# EAGLE library part STM32F407IXHX (library be_stm32)
edited: Mario Blunk / Blunk electronic
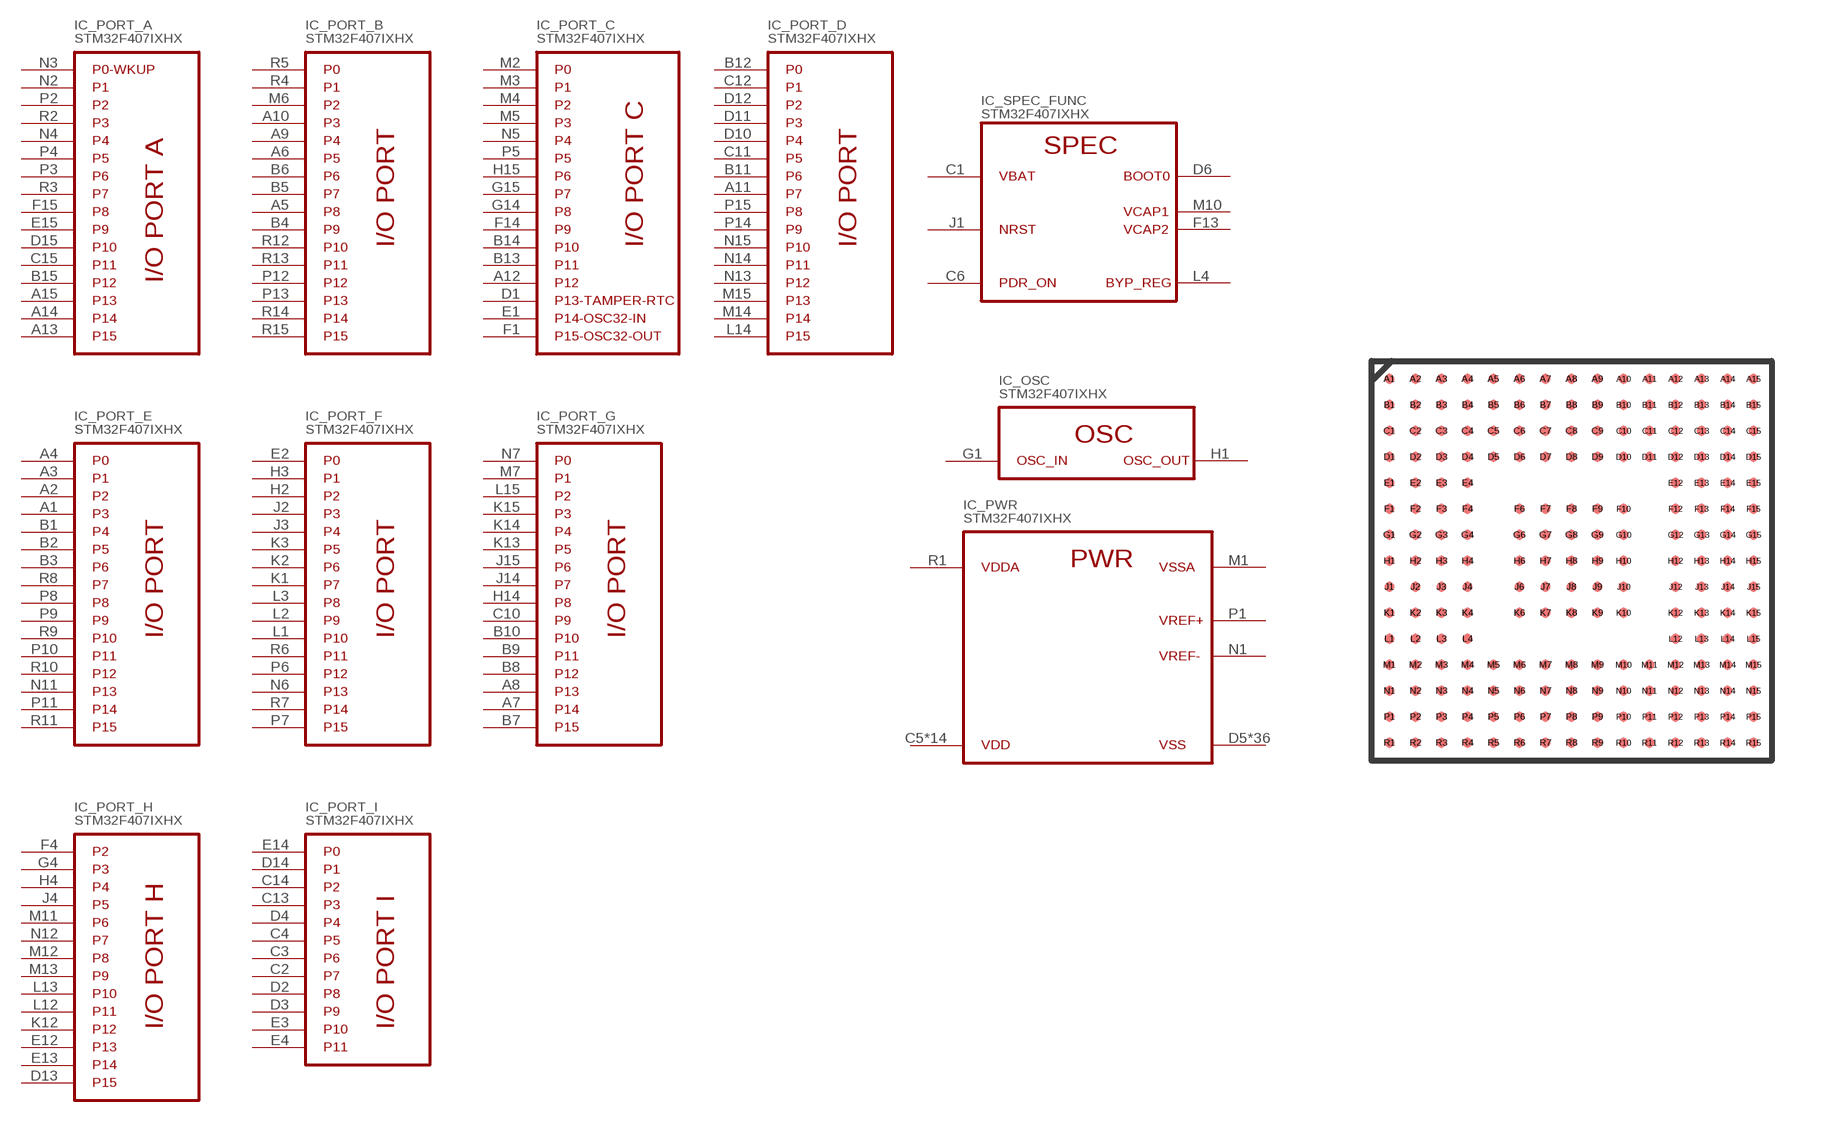
[diagram p1: symbol with the pads of S_UFBGA176+25; footprint S_UFBGA176+25]

Designator prefix IC; gates _PWR=PWR2 _OSC=OSC _PORT_B=IO_PORT _PORT_C=IO_PORT_C _PORT_D=IO_PORT _PORT_E=IO_PORT _PORT_F=IO_PORT _PORT_G=IO_PORT _SPEC_FUNC=SPECIAL_FUNC2 _PORT_A=IO_PORT_A _PORT_H=IO_PORT_H _PORT_I=IO_PORT_I

## STM32F407IXHX (BOM: YES; COMMISSIONED: 2013-11-18; PART_CODE_BEL: IC_PAC_S_UFBGA176+25_VAL_STM32F407IxHx)  [S_UFBGA176+25]
A1  _PORT_E:P3
A2  _PORT_E:P2
A3  _PORT_E:P1
A4  _PORT_E:P0
A5  _PORT_B:P8
A6  _PORT_B:P5
A7  _PORT_G:P14
A8  _PORT_G:P13
A9  _PORT_B:P4
A10  _PORT_B:P3
A11  _PORT_D:P7
A12  _PORT_C:P12
A13  _PORT_A:P15
A14  _PORT_A:P14
A15  _PORT_A:P13
B1  _PORT_E:P4
B2  _PORT_E:P5
B3  _PORT_E:P6
B4  _PORT_B:P9
B5  _PORT_B:P7
B6  _PORT_B:P6
B7  _PORT_G:P15
B8  _PORT_G:P12
B9  _PORT_G:P11
B10  _PORT_G:P10
B11  _PORT_D:P6
B12  _PORT_D:P0
B13  _PORT_C:P11
B14  _PORT_C:P10
B15  _PORT_A:P12
C1  _SPEC_FUNC:VBAT  pas
C2  _PORT_I:P7
C3  _PORT_I:P6
C4  _PORT_I:P5
C5  _PWR:VDD  pwr
C6  _SPEC_FUNC:PDR_ON  in
C7  _PWR:VDD  pwr
C8  _PWR:VDD  pwr
C9  _PWR:VDD  pwr
C10  _PORT_G:P9
C11  _PORT_D:P5
C12  _PORT_D:P1
C13  _PORT_I:P3
C14  _PORT_I:P2
C15  _PORT_A:P11
D1  _PORT_C:P13-TAMPER-RTC
D2  _PORT_I:P8
D3  _PORT_I:P9
D4  _PORT_I:P4
D5  _PWR:VSS  pwr
D6  _SPEC_FUNC:BOOT0  in
D7  _PWR:VSS  pwr
D8  _PWR:VSS  pwr
D9  _PWR:VSS  pwr
D10  _PORT_D:P4
D11  _PORT_D:P3
D12  _PORT_D:P2
D13  _PORT_H:P15
D14  _PORT_I:P1
D15  _PORT_A:P10
E1  _PORT_C:P14-OSC32-IN
E2  _PORT_F:P0
E3  _PORT_I:P10
E4  _PORT_I:P11
E12  _PORT_H:P13
E13  _PORT_H:P14
E14  _PORT_I:P0
E15  _PORT_A:P9
F1  _PORT_C:P15-OSC32-OUT
F2  _PWR:VSS  pwr
F3  _PWR:VDD  pwr
F4  _PORT_H:P2
F6  _PWR:VSS  pwr
F7  _PWR:VSS  pwr
F8  _PWR:VSS  pwr
F9  _PWR:VSS  pwr
F10  _PWR:VSS  pwr
F12  _PWR:VSS  pwr
F13  _SPEC_FUNC:VCAP2  pas
F14  _PORT_C:P9
F15  _PORT_A:P8
G1  _OSC:OSC_IN  pas
G2  _PWR:VSS  pwr
G3  _PWR:VDD  pwr
G4  _PORT_H:P3
G6  _PWR:VSS  pwr
G7  _PWR:VSS  pwr
G8  _PWR:VSS  pwr
G9  _PWR:VSS  pwr
G10  _PWR:VSS  pwr
G12  _PWR:VSS  pwr
G13  _PWR:VDD  pwr
G14  _PORT_C:P8
G15  _PORT_C:P7
H1  _OSC:OSC_OUT  out
H2  _PORT_F:P2
H3  _PORT_F:P1
H4  _PORT_H:P4
H6  _PWR:VSS  pwr
H7  _PWR:VSS  pwr
H8  _PWR:VSS  pwr
H9  _PWR:VSS  pwr
H10  _PWR:VSS  pwr
H12  _PWR:VSS  pwr
H13  _PWR:VDD  pwr
H14  _PORT_G:P8
H15  _PORT_C:P6
J1  _SPEC_FUNC:NRST  in
J2  _PORT_F:P3
J3  _PORT_F:P4
J4  _PORT_H:P5
J6  _PWR:VSS  pwr
J7  _PWR:VSS  pwr
J8  _PWR:VSS  pwr
J9  _PWR:VSS  pwr
J10  _PWR:VSS  pwr
J12  _PWR:VDD  pwr
J13  _PWR:VDD  pwr
J14  _PORT_G:P7
J15  _PORT_G:P6
K1  _PORT_F:P7
K2  _PORT_F:P6
K3  _PORT_F:P5
K4  _PWR:VDD  pwr
K6  _PWR:VSS  pwr
K7  _PWR:VSS  pwr
K8  _PWR:VSS  pwr
K9  _PWR:VSS  pwr
K10  _PWR:VSS  pwr
K12  _PORT_H:P12
K13  _PORT_G:P5
K14  _PORT_G:P4
K15  _PORT_G:P3
L1  _PORT_F:P10
L2  _PORT_F:P9
L3  _PORT_F:P8
L4  _SPEC_FUNC:BYPASS_REG  in
L12  _PORT_H:P11
L13  _PORT_H:P10
L14  _PORT_D:P15
L15  _PORT_G:P2
M1  _PWR:VSSA  pwr
M2  _PORT_C:P0
M3  _PORT_C:P1
M4  _PORT_C:P2
M5  _PORT_C:P3
M6  _PORT_B:P2
M7  _PORT_G:P1
M8  _PWR:VSS  pwr
M9  _PWR:VSS  pwr
M10  _SPEC_FUNC:VCAP1  pas
M11  _PORT_H:P6
M12  _PORT_H:P8
M13  _PORT_H:P9
M14  _PORT_D:P14
M15  _PORT_D:P13
N1  _PWR:VREF-  pwr
N2  _PORT_A:P1
N3  _PORT_A:P0-WKUP
N4  _PORT_A:P4
N5  _PORT_C:P4
N6  _PORT_F:P13
N7  _PORT_G:P0
N8  _PWR:VDD  pwr
N9  _PWR:VDD  pwr
N10  _PWR:VDD  pwr
N11  _PORT_E:P13
N12  _PORT_H:P7
N13  _PORT_D:P12
N14  _PORT_D:P11
N15  _PORT_D:P10
P1  _PWR:VREF+  pwr
P2  _PORT_A:P2
P3  _PORT_A:P6
P4  _PORT_A:P5
P5  _PORT_C:P5
P6  _PORT_F:P12
P7  _PORT_F:P15
P8  _PORT_E:P8
P9  _PORT_E:P9
P10  _PORT_E:P11
P11  _PORT_E:P14
P12  _PORT_B:P12
P13  _PORT_B:P13
P14  _PORT_D:P9
P15  _PORT_D:P8
R1  _PWR:VDDA  pwr
R2  _PORT_A:P3
R3  _PORT_A:P7
R4  _PORT_B:P1
R5  _PORT_B:P0
R6  _PORT_F:P11
R7  _PORT_F:P14
R8  _PORT_E:P7
R9  _PORT_E:P10
R10  _PORT_E:P12
R11  _PORT_E:P15
R12  _PORT_B:P10
R13  _PORT_B:P11
R14  _PORT_B:P14
R15  _PORT_B:P15

## Footprint S_UFBGA176+25 (pad centres in mm)
edited: Mario Blunk / Blunk electronic date: 2013-11-18
smd 0.254 x 0.254: A1 -4.55,4.55; A2 -3.9,4.55; A3 -3.25,4.55; A4 -2.6,4.55; A5 -1.95,4.55; A6 -1.3,4.55; A7 -0.65,4.55; A8 0,4.55; A9 0.65,4.55; A10 1.3,4.55; A11 1.95,4.55; A12 2.6,4.55; A13 3.25,4.55; A14 3.9,4.55; A15 4.55,4.55; B1 -4.55,3.9; B2 -3.9,3.9; B3 -3.25,3.9; B4 -2.6,3.9; B5 -1.95,3.9; B6 -1.3,3.9; B7 -0.65,3.9; B8 0,3.9; B9 0.65,3.9; B10 1.3,3.9; B11 1.95,3.9; B12 2.6,3.9; B13 3.25,3.9; B14 3.9,3.9; B15 4.55,3.9; C1 -4.55,3.25; C2 -3.9,3.25; C3 -3.25,3.25; C4 -2.6,3.25; C5 -1.95,3.25; C6 -1.3,3.25; C7 -0.65,3.25; C8 0,3.25; C9 0.65,3.25; C10 1.3,3.25; C11 1.95,3.25; C12 2.6,3.25; C13 3.25,3.25; C14 3.9,3.25; C15 4.55,3.25; D1 -4.55,2.6; D2 -3.9,2.6; D3 -3.25,2.6; D4 -2.6,2.6; D5 -1.95,2.6; D6 -1.3,2.6; D7 -0.65,2.6; D8 0,2.6; D9 0.65,2.6; D10 1.3,2.6; D11 1.95,2.6; D12 2.6,2.6; D13 3.25,2.6; D14 3.9,2.6; D15 4.55,2.6; E1 -4.55,1.95; E2 -3.9,1.95; E3 -3.25,1.95; E4 -2.6,1.95; E12 2.6,1.95; E13 3.25,1.95; E14 3.9,1.95; E15 4.55,1.95; F1 -4.55,1.3; F2 -3.9,1.3; F3 -3.25,1.3; F4 -2.6,1.3; F6 -1.3,1.3; F7 -0.65,1.3; F8 0,1.3; F9 0.65,1.3; F10 1.3,1.3; F12 2.6,1.3; F13 3.25,1.3; F14 3.9,1.3; F15 4.55,1.3; G1 -4.55,0.65; G2 -3.9,0.65; G3 -3.25,0.65; G4 -2.6,0.65; G6 -1.3,0.65; G7 -0.65,0.65; G8 0,0.65; G9 0.65,0.65; G10 1.3,0.65; G12 2.6,0.65; G13 3.25,0.65; G14 3.9,0.65; G15 4.55,0.65; H1 -4.55,0; H2 -3.9,0; H3 -3.25,0; H4 -2.6,0; H6 -1.3,0; H7 -0.65,0; H8 0,0; H9 0.65,0; H10 1.3,0; H12 2.6,0; H13 3.25,0; H14 3.9,0; H15 4.55,0; J1 -4.55,-0.65; J2 -3.9,-0.65; J3 -3.25,-0.65; J4 -2.6,-0.65; J6 -1.3,-0.65; J7 -0.65,-0.65; J8 0,-0.65; J9 0.65,-0.65; J10 1.3,-0.65; J12 2.6,-0.65; J13 3.25,-0.65; J14 3.9,-0.65; J15 4.55,-0.65; K1 -4.55,-1.3; K2 -3.9,-1.3; K3 -3.25,-1.3; K4 -2.6,-1.3; K6 -1.3,-1.3; K7 -0.65,-1.3; K8 0,-1.3; K9 0.65,-1.3; K10 1.3,-1.3; K12 2.6,-1.3; K13 3.25,-1.3; K14 3.9,-1.3; K15 4.55,-1.3; L1 -4.55,-1.95; L2 -3.9,-1.95; L3 -3.25,-1.95; L4 -2.6,-1.95; L12 2.6,-1.95; L13 3.25,-1.95; L14 3.9,-1.95; L15 4.55,-1.95; M1 -4.55,-2.6; M2 -3.9,-2.6; M3 -3.25,-2.6; M4 -2.6,-2.6; M5 -1.95,-2.6; M6 -1.3,-2.6; M7 -0.65,-2.6; M8 0,-2.6; M9 0.65,-2.6; M10 1.3,-2.6; M11 1.95,-2.6; M12 2.6,-2.6; M13 3.25,-2.6; M14 3.9,-2.6; M15 4.55,-2.6; N1 -4.55,-3.25; N2 -3.9,-3.25; N3 -3.25,-3.25; N4 -2.6,-3.25; N5 -1.95,-3.25; N6 -1.3,-3.25; N7 -0.65,-3.25; N8 0,-3.25; N9 0.65,-3.25; N10 1.3,-3.25; N11 1.95,-3.25; N12 2.6,-3.25; N13 3.25,-3.25; N14 3.9,-3.25; N15 4.55,-3.25; P1 -4.55,-3.9; P2 -3.9,-3.9; P3 -3.25,-3.9; P4 -2.6,-3.9; P5 -1.95,-3.9; P6 -1.3,-3.9; P7 -0.65,-3.9; P8 0,-3.9; P9 0.65,-3.9; P10 1.3,-3.9; P11 1.95,-3.9; P12 2.6,-3.9; P13 3.25,-3.9; P14 3.9,-3.9; P15 4.55,-3.9; R1 -4.55,-4.55; R2 -3.9,-4.55; R3 -3.25,-4.55; R4 -2.6,-4.55; R5 -1.95,-4.55; R6 -1.3,-4.55; R7 -0.65,-4.55; R8 0,-4.55; R9 0.65,-4.55; R10 1.3,-4.55; R11 1.95,-4.55; R12 2.6,-4.55; R13 3.25,-4.55; R14 3.9,-4.55; R15 4.55,-4.55